# Altium footprint library OSCCC200X160X50L57X67N.PcbLib: 1 footprints
Each footprint in its own frame and in the unit in brackets; x right, y up, seen from the top. Pads: shape width x height; smd on the part's side, far side on the other; paste and mask are expansions set on the pad; w line width, h text height; cw(c..) or ccw(c..) is an arc to the next point about the centre after c.
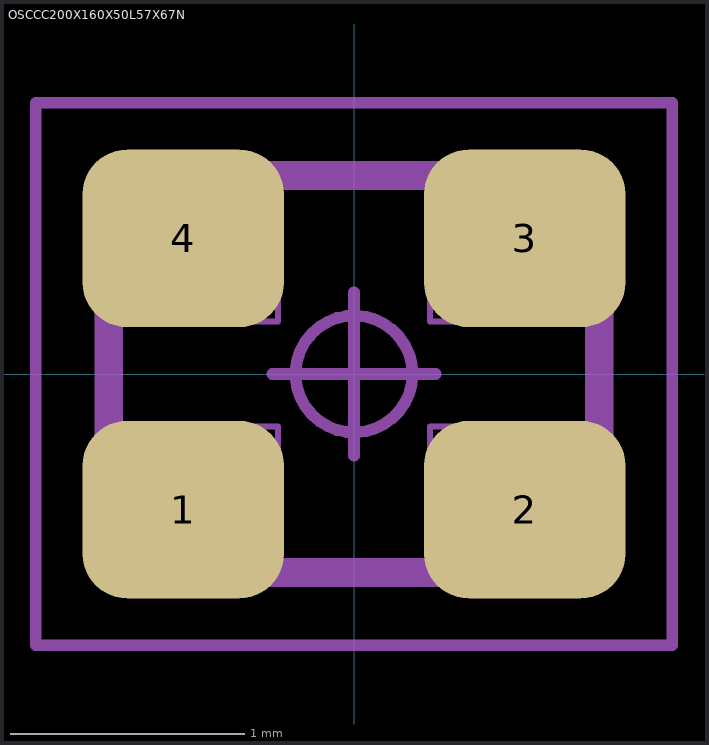
[diagram p0: the footprint, top view; thin cyan lines are the x and y axes]

## OSCCC200X160X50L57X67N [mm] "Oscillator, Corner Concave; 2.00 mm L X 1.60 mm W X 0.50 mm H body"
height 0.5
pads (4):
  rrect50% 0.86x0.76 smd: 1(-0.73,-0.58) 2(0.73,-0.58) 3(0.73,0.58) 4(-0.73,0.58)
Mechanical 3:
  lines w0.12: -1.05,-0.4 -1.05,0.85 1.05,0.85 1.05,-0.85 -0.6,-0.85 -1.05,-0.4
Mechanical 5:
  lines w0.025: -1,-0.8 1,-0.8 ; -1,-0.8 -1,0.8 ; -1,-0.8 -1,-0.225 -0.325,-0.225 -0.325,-0.8 -1,-0.8 ; -1,0.8 1,0.8 ; -1,0.8 -0.325,0.8 -0.325,0.225 -1,0.225 -1,0.8 ; 1,-0.8 1,0.8 ; 1,-0.8 0.325,-0.8 0.325,-0.225 1,-0.225 1,-0.8 ; 1,0.8 1,0.225 0.325,0.225 0.325,0.8 1,0.8
Mechanical 7:
  circle w0.05: c0,0 r0.25
  lines w0.05: -0.35,0 0.35,0 ; 0,-0.35 0,0.35 ; -1.36,-1.16 1.36,-1.16 1.36,1.16 -1.36,1.16 -1.36,-1.16
Mechanical 9:
  text "'.Designator'" at -7.655,-0.654 h1
3D body: height 2, standoff 0.05, extent -1.35,-1.175 1.375,1.15
3D body "OSCCC200X160X50L57X67.STEP": height 0.5, standoff 0, extent -1,-0.8 1,0.8
3D body: height 1.04, standoff 0, extent -1.36,-1.16 1.36,1.16